# Altium schematic symbol library STM32F031E6Y6TR.SchLib: 1 symbol
Pins are listed as number, name and electrical type; pins without a type are passive.

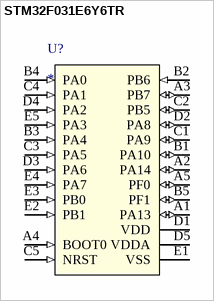
[diagram p0: symbol STM32F031E6Y6TR]

## STM32F031E6Y6TR
designator U?
pins: A1 PA13 (io), A2 PA14 (io), A3 PB7 (io), A4 BOOT0 (in), A5 PF0 (io), B1 PA10 (io), B2 PB6 (in), B3 PA4 (in), B4 PA0 (in), B5 PF1 (io), C1 PA9 (io), C2 PB5 (io), C3 PA5 (in), C4 PA1 (in), C5 NRST (in), D1 VDD (power), D2 PA8 (io), D3 PA6 (in), D4 PA2 (in), D5 VDDA (power), E1 VSS (power), E2 PB1 (in), E3 PB0 (in), E4 PA7 (in), E5 PA3 (in)